# Altium schematic symbol library RC1206FR-07165RL.SchLib: 1 symbol
Pins are listed as number, name and electrical type; pins without a type are passive.

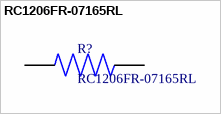
[diagram p0: symbol RC1206FR-07165RL]

## RC1206FR-07165RL
designator R?
165 Ohms ±1% 0.25W, 1/4W Chip Resistor 1206 (3216 Metric) Moisture Resistant Thick Film; Value: 165; Tolerance: ±1%
footprint RC1206FR-07165RL
pins: 1, 2